# EAGLE library part SHUNT2 (library Shunt2)
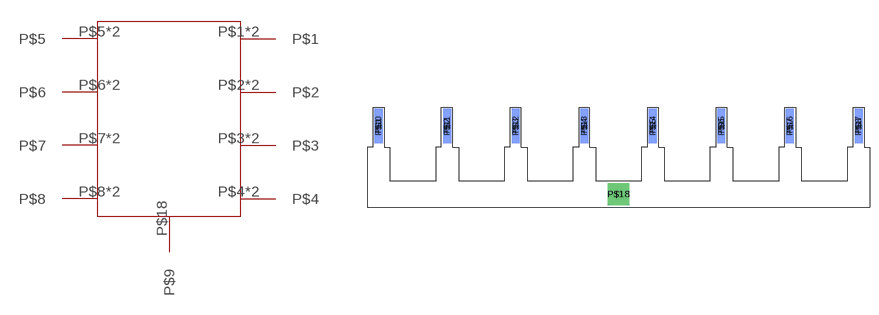
[diagram p0: symbol with the pads of SHUNT2; footprint SHUNT2]

Designator prefix -

## SHUNT2  [SHUNT2]
P$1  P$1
P$2  P$2
P$3  P$3
P$4  P$4
P$5  P$5
P$6  P$6
P$7  P$7
P$8  P$8
P$10  P$1
P$11  P$2
P$12  P$3
P$13  P$4
P$14  P$5
P$15  P$6
P$16  P$7
P$17  P$8
P$18  P$9

## Footprint SHUNT2 (pad centres in mm)
smd 1.4 x 6: P$1 -85,-3.3; P$2 -73,-3.3; P$3 -61,-3.3; P$4 -49,-3.3; P$5 -37,-3.3; P$6 -25,-3.3; P$7 -13,-3.3; P$8 -1,-3.3
smd 1.4 x 6 bottom: P$10 -85,-3.3; P$11 -73,-3.3; P$12 -61,-3.3; P$13 -49,-3.3; P$14 -37,-3.3; P$15 -25,-3.3; P$16 -13,-3.3; P$17 -1,-3.3
drill 2 pad 3.81 square: P$18 -43,-15.25